# EAGLE library part UX60SC-MB-5ST (library Connector_USB)
USB(2.0) Mini-B, RCPT, 5POS, SMD-R/A Datasheet <https://www.hirose.com/product/document?clcode=CL0240-0016-6-80&productname=UX60SC-MB-5ST(80)&series=UX&documenttype=Catalog&lang=en&documentid=D31610_en> Drawing <https://www.hirose.com/product/document?clcode=CL0240-0016-6-80&productname=UX60SC-MB-5ST(80)&series=UX&documenttype=2DDrawing&lang=en&documentid=0000903446>
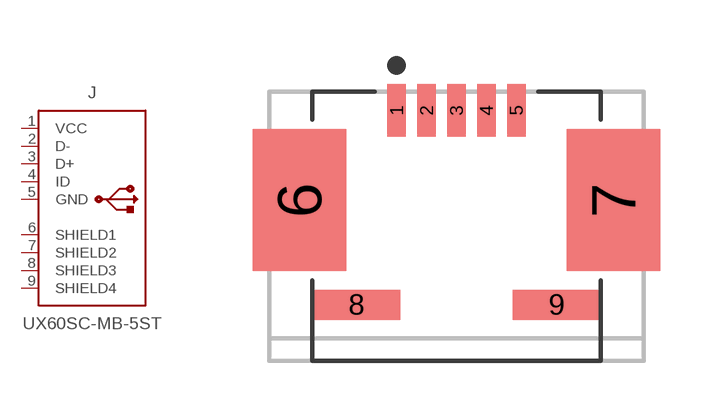
[diagram p0: symbol with the pads of UX60SC-MB-5ST; footprint UX60SC-MB-5ST]

Designator prefix J

## UX60SC-MB-5ST (CATEGORY: Connector; CONTACTS: 4; CURRENT_RATING: 1A; DESCRIPTION: CONN RCPT USB2.0 MINI B SMD R/A; GENDER: Receptacle; MANUFACTURER: Hirose Electric Co. Ltd; MOUNT_TYPE: R/A; MPN: UX60SC-MB-5ST(80); OPERATING_TEMP: -30°C to 75°C; PART_STATUS: Active; ROHS_COMPLIANT: RoHS Compliant; SERIES: UX; SUB-CATEGORY: USB; TYPE: USB-Mini B; VALUE: USB-MINI-B-RCPT; VOLTAGE_RATING: 30V AC)  [UX60SC-MB-5ST]
1  VCC  pwr
2  D-
3  D+
4  ID
5  GND  pwr
6  SHIELD1  sup
7  SHIELD2  sup
8  SHIELD3  sup
9  SHIELD4  sup

## Footprint UX60SC-MB-5ST (pad centres in mm)
smd 0.5 x 1.4: 1 -1.6,2.8; 2 -0.8,2.8; 3 0,2.8; 4 0.8,2.8; 5 1.6,2.8
smd 2.5 x 3.8: 6 -4.2,0.4; 7 4.2,0.4
smd 2.35 x 0.8: 8 -2.675,-2.4; 9 2.675,-2.4